# EAGLE library part TPS25221DRVR (library TPS25221DRVR)
Precision Adjustable Current-Limited Power-Distribution Switches Source: Datasheet <http://www.ti.com/lit/gpn/TPS25221>
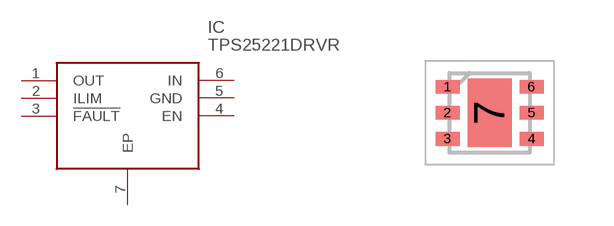
[diagram p0: symbol with the pads of SON65P200X200X80-7N; footprint SON65P200X200X80-7N]

Designator prefix IC

## TPS25221DRVR (Description: Precision Adjustable Current-Limited Power-Distribution Switches; Height: 0.8mm; Manufacturer_Name: Texas Instruments; Manufacturer_Part_Number: TPS25221DRVR; Mouser_Part_Number: 595-TPS25221DRVR; Mouser_Price-Stock: https://www.mouser.co.uk/ProductDetail/Texas-Instruments/TPS25221DRVR?qs=y6ZabgHbY%252BwMfKdJX5xA9w%3D%3D)  [SON65P200X200X80-7N]
1  OUT
2  ILIM
3  !FAULT
4  EN
5  GND
6  IN
7  EP

## Footprint SON65P200X200X80-7N (pad centres in mm)
DRV0006A-
smd 0.6 x 0.35: 1 -1.05,0.65; 2 -1.05,0; 3 -1.05,-0.65; 4 1.05,-0.65; 5 1.05,0; 6 1.05,0.65
smd 1.1 x 1.7: 7 0,0